# Altium footprint library B105rlc.PcbLib: 36 footprints (part 1 of 3)
Each footprint in its own frame and in the unit in brackets; x right, y up, seen from the top. Pads: shape width x height; smd on the part's side, far side on the other; paste and mask are expansions set on the pad; w line width, h text height; cw(c..) or ccw(c..) is an arc to the next point about the centre after c.
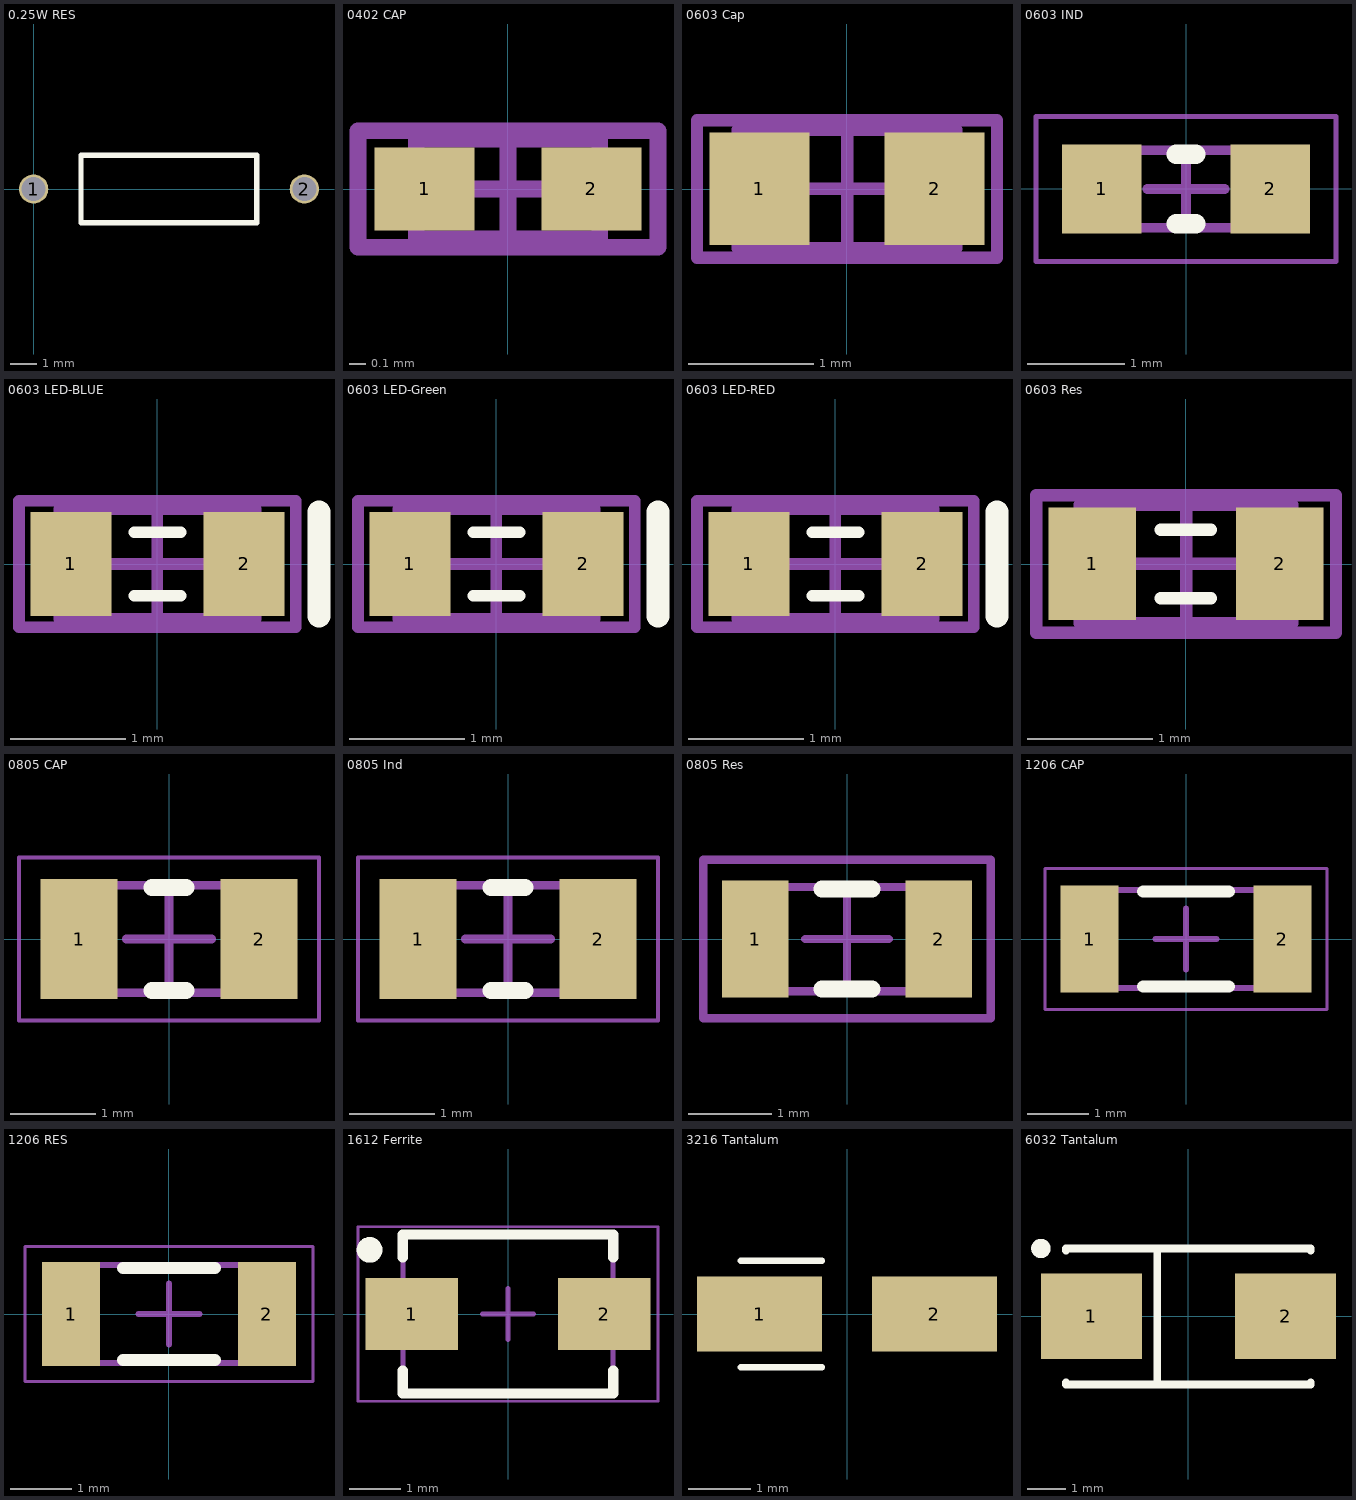
[diagram p0: the footprints below, top view; thin cyan lines are the x and y axes]

## 0.25W RES [mm]
pads (2):
  round 1.1 hole 0.9: 1(0,0) 2(10.167,0)
Top Overlay:
  lines w0.2: 1.778,-1.27 1.778,1.27 8.382,1.27 8.382,-1.27 1.778,-1.27
3D body: height 2.93, standoff -2.54, extent -0.254,-1.143 10.516,1.168

## 0402 CAP [mm] "Chip Capacitor, Body 1.0x0.5mm, IPC High Density"
height 1.3
pads (2):
  rect 0.6x0.5 smd: 1(-0.5,0) 2(0.5,0)
Mechanical 13:
  lines w0.1: -0.55,-0.3 -0.55,0.3 0.55,0.3 0.55,-0.3 -0.55,-0.3
Mechanical 15:
  lines w0.1: -0.3,0 0.3,0 ; 0,-0.3 0,0.3 ; -0.9,-0.35 -0.9,0.35 0.9,0.35 0.9,-0.35 -0.9,-0.35
3D body: height 0.49, standoff -0.01, extent -0.5,-0.25 0.5,0.25

## 0603 Cap [mm] "Chip Capacitor, Body 1.6x0.8mm, IPC High Density"
height 1.3
pads (2):
  rect 0.8x0.9 smd: 1(-0.7,0) 2(0.7,0)
Mechanical 13:
  lines w0.1: -0.875,-0.475 -0.875,0.475 0.875,0.475 0.875,-0.475 -0.875,-0.475
Mechanical 15:
  lines w0.1: -0.475,0 0.475,0 ; 0,-0.475 0,0.475 ; -1.2,-0.55 -1.2,0.55 1.2,0.55 1.2,-0.55 -1.2,-0.55
3D body: height 0.78, standoff -0.01, extent -0.8,-0.4 0.8,0.4

## 0603 IND [mm] "Chip Inductor, 2-Leads, Body 1,60x0,80mm, IPC Medium Density"
height 0.6
pads (2):
  rect 0.82x0.92 smd: 1(-0.87,0) 2(0.87,0)
Top Overlay:
  lines w0.2: -0.1,-0.36 0.1,-0.36 ; -0.1,0.36 0.1,0.36
Mechanical 13:
  lines w0.1: -0.8,-0.4 0.8,-0.4 0.8,0.4 -0.8,0.4 -0.8,-0.4
Mechanical 15:
  lines w0.05: -1.55,-0.75 1.55,-0.75 1.55,0.75 -1.55,0.75 -1.55,-0.75
  lines w0.1: -0.4,0 0.4,0 ; 0,-0.4 0,0.4
3D body: height 0.52, standoff -0.01, extent -0.772,-0.381 0.772,0.381

## 0603 LED-BLUE [mm] "LED, Body 1.6x0.8mm, IPC High Density"
height 0.9
pads (2):
  rect 0.7x0.9 smd: 1(-0.75,0) 2(0.75,0)
Top Overlay:
  lines w0.1: -0.2,-0.275 0.2,-0.275 ; -0.2,0.275 0.2,0.275
  lines w0.2: 1.4,-0.45 1.4,0.45
Mechanical 13:
  lines w0.1: -0.85,-0.475 -0.85,0.475 0.85,0.475 0.85,-0.475 -0.85,-0.475
Mechanical 15:
  lines w0.1: -0.475,0 0.475,0 ; 0,-0.475 0,0.475 ; -1.2,-0.55 -1.2,0.55 1.2,0.55 1.2,-0.55 -1.2,-0.55
3D body: height 0.9, standoff 0, extent -0.85,-0.45 0.85,0.45

## 0603 LED-Green [mm] "LED, Body 1.6x0.8mm, IPC High Density"
height 0.9
pads (2):
  rect 0.7x0.9 smd: 1(-0.75,0) 2(0.75,0)
Top Overlay:
  lines w0.1: -0.2,-0.275 0.2,-0.275 ; -0.2,0.275 0.2,0.275
  lines w0.2: 1.4,-0.45 1.4,0.45
Mechanical 13:
  lines w0.1: -0.85,-0.475 -0.85,0.475 0.85,0.475 0.85,-0.475 -0.85,-0.475
Mechanical 15:
  lines w0.1: -0.475,0 0.475,0 ; 0,-0.475 0,0.475 ; -1.2,-0.55 -1.2,0.55 1.2,0.55 1.2,-0.55 -1.2,-0.55
3D body: height 0.9, standoff 0, extent -0.85,-0.45 0.85,0.45

## 0603 LED-RED [mm] "LED, Body 1.6x0.8mm, IPC High Density"
height 0.9
pads (2):
  rect 0.7x0.9 smd: 1(-0.75,0) 2(0.75,0)
Top Overlay:
  lines w0.1: -0.2,-0.275 0.2,-0.275 ; -0.2,0.275 0.2,0.275
  lines w0.2: 1.4,-0.45 1.4,0.45
Mechanical 13:
  lines w0.1: -0.85,-0.475 -0.85,0.475 0.85,0.475 0.85,-0.475 -0.85,-0.475
Mechanical 15:
  lines w0.1: -0.475,0 0.475,0 ; 0,-0.475 0,0.475 ; -1.2,-0.55 -1.2,0.55 1.2,0.55 1.2,-0.55 -1.2,-0.55
3D body: height 0.9, standoff 0, extent -0.85,-0.45 0.85,0.45

## 0603 Res [mm] "Chip Resistor, Body 1.6x0.8mm, IPC High Density"
height 0.9
pads (2):
  rect 0.7x0.9 smd: 1(-0.75,0) 2(0.75,0)
Top Overlay:
  lines w0.1: -0.2,-0.275 0.2,-0.275 ; -0.2,0.275 0.2,0.275
Mechanical 13:
  lines w0.1: -0.85,-0.475 -0.85,0.475 0.85,0.475 0.85,-0.475 -0.85,-0.475
Mechanical 15:
  lines w0.1: -0.475,0 0.475,0 ; 0,-0.475 0,0.475 ; -1.2,-0.55 -1.2,0.55 1.2,0.55 1.2,-0.55 -1.2,-0.55
3D body: height 0.44, standoff -0.02, extent -0.775,-0.425 0.775,0.425

## 0805 CAP [mm] "Chip Capacitor, 2-Leads, Body 2,00x1,25mm, IPC Medium Density"
height 0.6
pads (2):
  rect 0.9x1.4 smd: 1(-1.05,0) 2(1.05,0)
Top Overlay:
  lines w0.2: -0.2,-0.6 0.2,-0.6 ; -0.2,0.6 0.2,0.6
Mechanical 13:
  lines w0.1: -1,-0.625 1,-0.625 1,0.625 -1,0.625 -1,-0.625
Mechanical 15:
  lines w0.05: -1.75,-0.95 1.75,-0.95 1.75,0.95 -1.75,0.95 -1.75,-0.95
  lines w0.1: -0.5,0 0.5,0 ; 0,-0.5 0,0.5
3D body: height 1.2, standoff 0, extent -1,-0.6 1,0.6

## 0805 Ind [mm] "Chip Capacitor, 2-Leads, Body 2,00x1,25mm, IPC Medium Density"
height 0.6
pads (2):
  rect 0.9x1.4 smd: 1(-1.05,0) 2(1.05,0)
Top Overlay:
  lines w0.2: -0.2,-0.6 0.2,-0.6 ; -0.2,0.6 0.2,0.6
Mechanical 13:
  lines w0.1: -1,-0.625 -1,0.625 1,0.625 1,-0.625 -1,-0.625
Mechanical 15:
  lines w0.05: -1.75,-0.95 -1.75,0.95 1.75,0.95 1.75,-0.95 -1.75,-0.95
  lines w0.1: -0.5,0 0.5,0 ; 0,-0.5 0,0.5
3D body: height 0.95, standoff 0, extent -1,-0.6 1,0.6

## 0805 Res [mm] "Chip Capacitor, 2-Leads, Body 2,0x1,3mm, IPC Medium Density"
height 0.8
pads (2):
  rect 0.8x1.4 smd: 1(-1.1,0) 2(1.1,0)
Top Overlay:
  lines w0.2: -0.3,-0.6 0.3,-0.6 ; -0.3,0.6 0.3,0.6
Mechanical 13:
  lines w0.1: -1,-0.625 1,-0.625 1,0.625 -1,0.625 -1,-0.625
Mechanical 15:
  lines w0.1: -0.5,0 0.5,0 ; 0,-0.5 0,0.5 ; -1.725,-0.95 1.725,-0.95 1.725,0.95 -1.725,0.95 -1.725,-0.95
3D body: height 0.44, standoff -0.02, extent -1,-0.625 1,0.625

## 1206 CAP [mm] "Chip Capacitor, 2-Leads, Body 3,20x1,60mm, IPC Medium Density"
height 0.6
pads (2):
  rect 0.95x1.75 smd: 1(-1.575,0) 2(1.575,0)
Top Overlay:
  lines w0.2: -0.7,-0.775 0.7,-0.775 ; -0.7,0.775 0.7,0.775
Mechanical 13:
  lines w0.1: -1.6,-0.8 1.6,-0.8 1.6,0.8 -1.6,0.8 -1.6,-0.8
Mechanical 15:
  lines w0.05: -2.3,-1.15 2.3,-1.15 2.3,1.15 -2.3,1.15 -2.3,-1.15
  lines w0.1: -0.5,0 0.5,0 ; 0,-0.5 0,0.5
3D body: height 1.6, standoff 0, extent -1.6,-0.788 1.6,0.812

## 1206 RES [mm] "Chip Resistor, 2-Leads, Body 3,20x1,60mm, IPC Medium Density"
height 0.6
pads (2):
  rect 0.95x1.7 smd: 1(-1.6,0) 2(1.6,0)
Top Overlay:
  lines w0.2: -0.75,-0.75 0.75,-0.75 ; -0.75,0.75 0.75,0.75
Mechanical 13:
  lines w0.1: -1.6,-0.8 -1.6,0.8 1.6,0.8 1.6,-0.8 -1.6,-0.8
Mechanical 15:
  lines w0.05: -2.35,-1.1 -2.35,1.1 2.35,1.1 2.35,-1.1 -2.35,-1.1
  lines w0.1: -0.5,0 0.5,0 ; 0,-0.5 0,0.5
3D body: height 1, standoff 0, extent -1.6,-0.8 1.6,0.8

## 1612 Ferrite [mm]
height 3
pads (2):
  rect 1.8x1.4 smd: 1(-1.875,0) 2(1.875,0)
Top Overlay:
  circle w0.25: c-2.7,1.25 r0.125
  lines w0.2: -2.05,-1.1 -2.05,-1.55 2.05,-1.55 2.05,-1.1 ; -2.05,1.1 -2.05,1.55 2.05,1.55 2.05,1.1
Mechanical 13:
  lines w0.1: -2.05,-1.55 -2.05,1.55 2.05,1.55 2.05,-1.55 -2.05,-1.55
Mechanical 15:
  lines w0.05: -2.925,-1.7 -2.925,1.7 2.925,1.7 2.925,-1.7 -2.925,-1.7
  lines w0.1: -0.5,0 0.5,0 ; 0,-0.5 0,0.5
3D body: height 2.78, standoff 0.02, extent -2.2,-1.5 2.2,1.5

## 3216 Tantalum [mm] "Capacitor, SM Tantalum; Body 3.2 x 1.6 mm (LxW typ)"
height 1.8
pads (2):
  rect 2x1.2 smd: 1(-1.4,0) 2(1.4,0)
Top Overlay:
  lines w0.1: -1.7,-0.85 -0.4,-0.85 ; -1.7,0.85 -0.4,0.85
3D body: height 1.65, standoff 0, extent -1.329,-0.75 -1.075,0.75
3D body: height 1.6, standoff 0, extent -1.6,-0.8 1.6,0.8
3D body: height 1, standoff 0, extent -1.75,-0.5 -1.56,0.5
3D body: height 1, standoff 0, extent 1.559,-0.5 1.75,0.5

## 6032 Tantalum [mm] "Capacitor, SM Tantalum; Body 6.0 x 3.2 mm (LxW typ)"
height 2.8
pads (2):
  rect 2.6x2.2 smd: 1(-2.5,0) 2(2.5,0)
Top Overlay:
  circle w0.25: c-3.8,1.75 r0.125
  lines w0.2: -3.15,-1.7 -3.15,-1.75 3.15,-1.75 3.15,-1.7 ; -3.15,1.7 -3.15,1.75 3.15,1.75 3.15,1.7 ; -0.8,-1.75 -0.8,1.75
3D body: height 2.55, standoff 0, extent -2.708,-1.5 -1.692,1.5
3D body: height 2.5, standoff 0, extent -3,-1.6 3,1.6
3D body: height 1, standoff 0, extent -3.165,-1 -2.784,1
3D body: height 1, standoff 0, extent 2.785,-1 3.166,1